# EAGLE library part SWD_SMT_M50 (library ubo_PQ60)
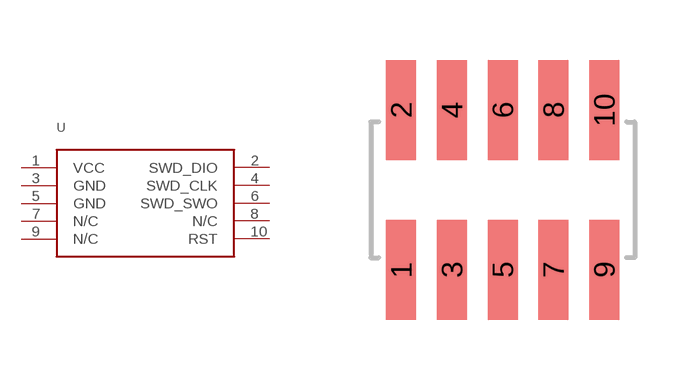
[diagram p15: symbol with the pads of SWD_SMT_M50; footprint SWD_SMT_M50]

Designator prefix -

## SWD_SMT_M50  [SWD_SMT_M50]
1  VCC
2  SWD_DIO
3  GND
4  SWD_CLK
5  GND
6  SWD_SWO
7  N/C
8  N/C
9  N/C
10  RST

## Footprint SWD_SMT_M50 (pad centres in mm)
smd 0.75 x 2.5: 1 -2.54,-2; 2 -2.54,2; 3 -1.27,-2; 4 -1.27,2; 5 0,-2; 6 0,2; 7 1.27,-2; 8 1.27,2; 9 2.54,-2; 10 2.54,2